# EAGLE library part HDMI-EP94Z1E (library duraTerm)
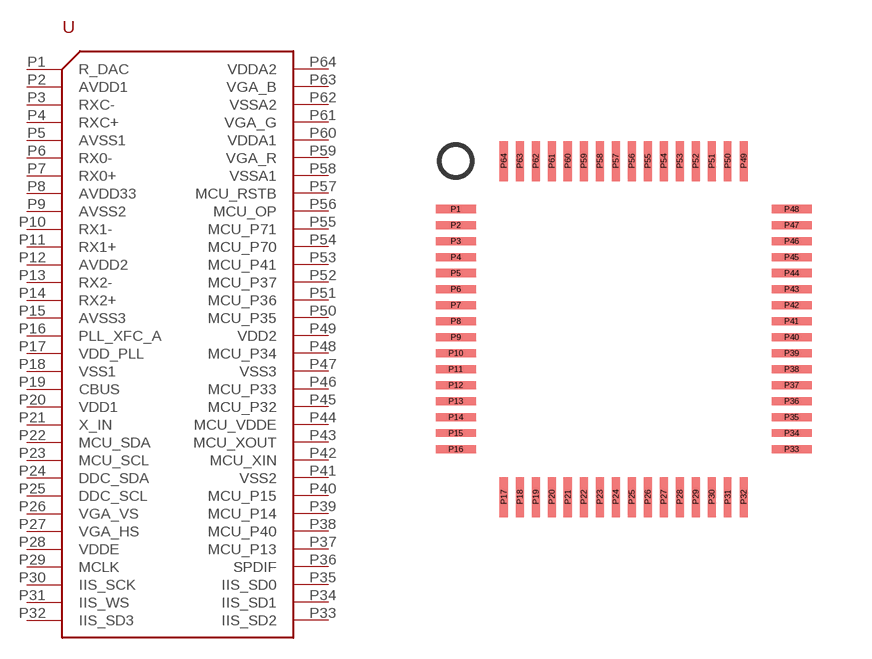
[diagram p3: symbol with the pads of EP94Z1E_LQFP_64; footprint EP94Z1E_LQFP_64]

Designator prefix U

## HDMI-EP94Z1E  [EP94Z1E_LQFP_64]
P1  R_DAC
P2  AVDD1
P3  RXC-
P4  RXC+
P5  AVSS1
P6  RX0-
P7  RX0+
P8  AVDD33
P9  AVSS2
P10  RX1-
P11  RX1+
P12  AVDD2
P13  RX2-
P14  RX2+
P15  AVSS3
P16  PLL_XFC_A
P17  VDD_PLL
P18  VSS1
P19  CBUS
P20  VDD1
P21  X_IN
P22  MCU_SDA
P23  MCU_SCL
P24  DDC_SDA
P25  DDC_SCL
P26  VGA_VS
P27  VGA_HS
P28  VDDE
P29  MCLK
P30  IIS_SCK
P31  IIS_WS
P32  IIS_SD3
P33  IIS_SD2
P34  IIS_SD1
P35  IIS_SD0
P36  SPDIF
P37  MCU_P13
P38  MCU_P40
P39  MCU_P14
P40  MCU_P15
P41  VSS2
P42  MCU_XIN
P43  MCU_XOUT
P44  MCU_VDDE
P45  MCU_P32
P46  MCU_P33
P47  VSS3
P48  MCU_P34
P49  VDD2
P50  MCU_P35
P51  MCU_P36
P52  MCU_P37
P53  MCU_P41
P54  MCU_P70
P55  MCU_P71
P56  MCU_OP
P57  MCU_RSTB
P58  VSSA1
P59  VGA_R
P60  VDDA1
P61  VGA_G
P62  VSSA2
P63  VGA_B
P64  VDDA2

## Footprint EP94Z1E_LQFP_64 (pad centres in mm)
smd 1 x 0.2: P1 0,-1.2; P2 0,-1.6; P3 0,-2; P4 0,-2.4; P5 0,-2.8; P6 0,-3.2; P7 0,-3.6; P8 0,-4; P9 0,-4.4; P10 0,-4.8; P11 0,-5.2; P12 0,-5.6; P13 0,-6; P14 0,-6.4; P15 0,-6.8; P16 0,-7.2; P33 8.4,-7.2; P34 8.4,-6.8; P35 8.4,-6.4; P36 8.4,-6; P37 8.4,-5.6; P38 8.4,-5.2; P39 8.4,-4.8; P40 8.4,-4.4; P41 8.4,-4; P42 8.4,-3.6; P43 8.4,-3.2; P44 8.4,-2.8; P45 8.4,-2.4; P46 8.4,-2; P47 8.4,-1.6; P48 8.4,-1.2
smd 0.2 x 1: P17 1.2,-8.4; P18 1.6,-8.4; P19 2,-8.4; P20 2.4,-8.4; P21 2.8,-8.4; P22 3.2,-8.4; P23 3.6,-8.4; P24 4,-8.4; P25 4.4,-8.4; P26 4.8,-8.4; P27 5.2,-8.4; P28 5.6,-8.4; P29 6,-8.4; P30 6.4,-8.4; P31 6.8,-8.4; P32 7.2,-8.4; P49 7.2,0; P50 6.8,0; P51 6.4,0; P52 6,0; P53 5.6,0; P54 5.2,0; P55 4.8,0; P56 4.4,0; P57 4,0; P58 3.6,0; P59 3.2,0; P60 2.8,0; P61 2.4,0; P62 2,0; P63 1.6,0; P64 1.2,0